# Altium footprint library ESP.PcbLib: 1 footprints
Each footprint in its own frame and in the unit in brackets; x right, y up, seen from the top. Pads: shape width x height; smd on the part's side, far side on the other; paste and mask are expansions set on the pad; w line width, h text height; cw(c..) or ccw(c..) is an arc to the next point about the centre after c.
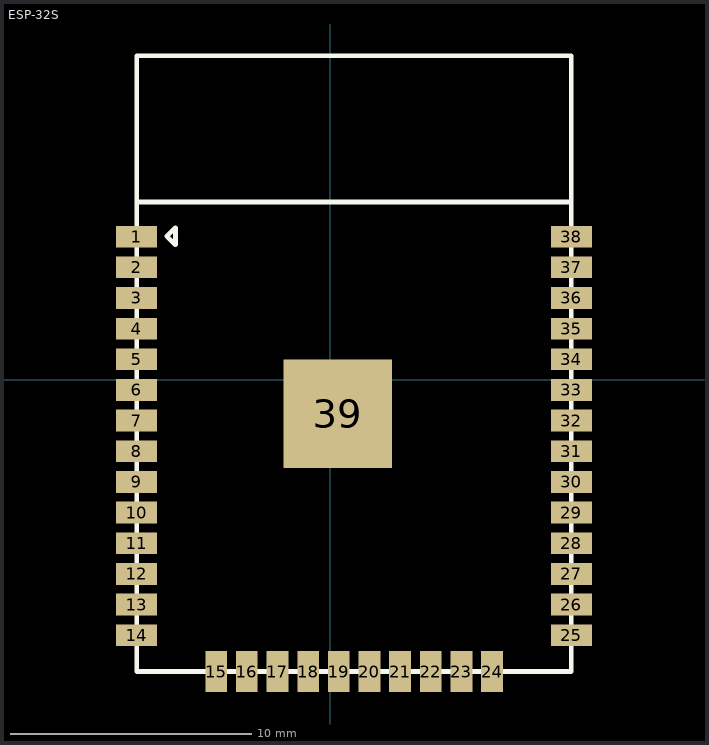
[diagram p0: the footprint, top view; thin cyan lines are the x and y axes]

## ESP-32S [mm]
pads (39):
  rect 1.7x0.9 smd: 1(-8.009,5.937) 2(-8.009,4.667) 3(-8.009,3.397) 4(-8.009,2.127) 5(-8.009,0.857) 6(-8.009,-0.413) 7(-8.009,-1.683) 8(-8.009,-2.953) 9(-8.009,-4.223) 10(-8.009,-5.493) 11(-8.009,-6.763) 12(-8.009,-8.033) 13(-8.009,-9.303) 14(-8.009,-10.573) 25(9.991,-10.573) 26(9.991,-9.303) 27(9.991,-8.033) 28(9.991,-6.763) 29(9.991,-5.493) 30(9.991,-4.223) 31(9.991,-2.953) 32(9.991,-1.683) 33(9.991,-0.413) 34(9.991,0.857) 35(9.991,2.127) 36(9.991,3.397) 37(9.991,4.667) 38(9.991,5.937)
  rect 0.9x1.7 smd: 15(-4.719,-12.083) 16(-3.449,-12.083) 17(-2.179,-12.083) 18(-0.909,-12.083) 19(0.361,-12.083) 20(1.631,-12.083) 21(2.901,-12.083) 22(4.171,-12.083) 23(5.441,-12.083) 24(6.711,-12.083)
  rect 4.5x4.5 smd: 39(0.311,-1.403)
Top Overlay:
  lines w0.2: -8.009,7.377 9.991,7.377 ; -8.009,-12.073 -8.009,13.427 9.991,13.427 9.991,-12.073 -8.009,-12.073 ; -6.759,5.957 -6.409,5.607 -6.409,6.307 -6.759,5.957